# EAGLE library part PCA9306 (library HeRo)
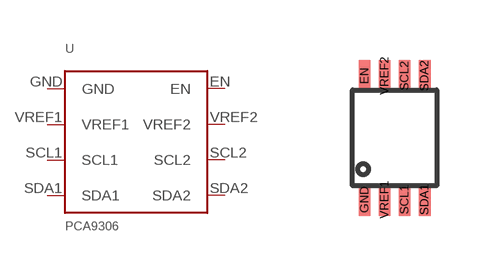
[diagram p9: symbol with the pads of PCA9306; footprint PCA9306]

Designator prefix -

## PCA9306  [PCA9306]
EN  EN
GND  GND
SCL1  SCL1
SCL2  SCL2
SDA1  SDA1
SDA2  SDA2
VREF1  VREF1
VREF2  VREF2

## Footprint PCA9306 (pad centres in mm)
smd 0.3 x 0.8: EN -0.75,1.55; GND -0.75,-1.55; SCL1 0.25,-1.55; SCL2 0.25,1.55; SDA1 0.75,-1.55; SDA2 0.75,1.55; VREF1 -0.25,-1.55; VREF2 -0.25,1.55